# Altium integrated library WS-TATV THT Tact Switch 6X6 mm.IntLib: 15 symbols
Pins are listed as number, name and electrical type; pins without a type are passive.

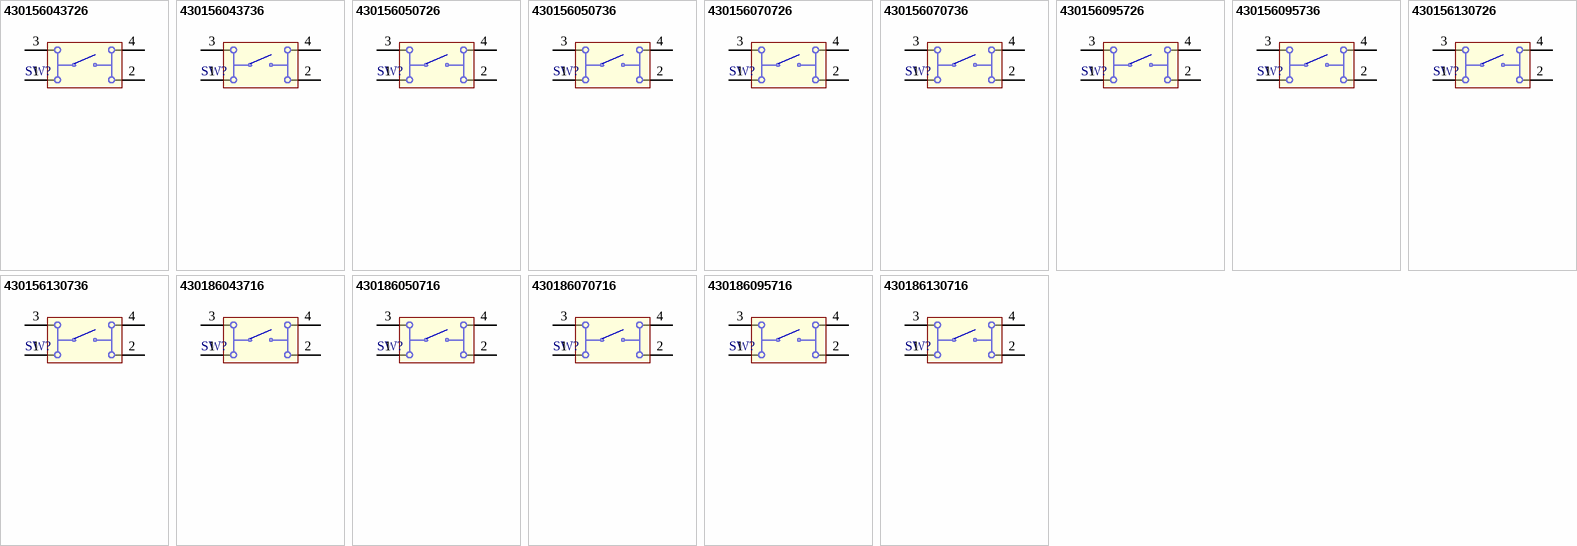
[diagram p0: symbols 430156043726 to 430186130716]

## 430156043726
designator SW?
WS-TATV THT Tact Switch 6X6 mm; PartNumber: 430156043726; NoPins: 04; PackageReference: 430156043726; ComponentLink1Description: Manufacturer URL; ComponentLink1URL: http://www.we-online.com; ComponentLink2Description: Datasheet; ComponentLink2URL: http://katalog.we-online.de/em/datasheet/4301x6.pdf
footprint 430156043726 (6*6mm vertical type, THT, height 4.3mm, white actuator, 260gf, Bulk)
pins: 1, 2, 3, 4

## 430156043736
designator SW?
WS-TATV THT Tact Switch 6X6 mm; PartNumber: 430156043736; NoPins: 04; PackageReference: 430156043736; ComponentLink1Description: Manufacturer URL; ComponentLink1URL: http://www.we-online.com; ComponentLink2Description: Datasheet; ComponentLink2URL: http://katalog.we-online.de/em/datasheet/4301x6.pdf
footprint 430156043736 (6*6mm vertical type, THT, height 4.3mm, salmon actuator 360gf, Bulk)
pins: 1, 2, 3, 4

## 430156050726
designator SW?
WS-TATV THT Tact Switch 6X6 mm; PartNumber: 430156050726; NoPins: 04; PackageReference: 430156050726; ComponentLink1Description: Manufacturer URL; ComponentLink1URL: http://www.we-online.com; ComponentLink2Description: Datasheet; ComponentLink2URL: http://katalog.we-online.de/em/datasheet/4301x6.pdf
footprint 430156050726 (6*6mm vertical type, THT, height 5.0mm, white actuator, 260gf, Bulk)
pins: 1, 2, 3, 4

## 430156050736
designator SW?
WS-TATV THT Tact Switch 6X6 mm; PartNumber: 430156050736; NoPins: 04; PackageReference: 430156050736; ComponentLink1Description: Manufacturer URL; ComponentLink1URL: http://www.we-online.com; ComponentLink2Description: Datasheet; ComponentLink2URL: http://katalog.we-online.de/em/datasheet/4301x6.pdf
footprint 430156050736 (6*6mm vertical type, THT, height 5.0mm, salmon actuator, 360gf, Bulk)
pins: 1, 2, 3, 4

## 430156070726
designator SW?
WS-TATV THT Tact Switch 6X6 mm; PartNumber: 430156070726; NoPins: 04; PackageReference: 430156070726; ComponentLink1Description: Manufacturer URL; ComponentLink1URL: http://www.we-online.com; ComponentLink2Description: Datasheet; ComponentLink2URL: http://katalog.we-online.de/em/datasheet/4301x6.pdf
footprint 430156070726 (6*6mm vertical type, THT, height 7.0mm, white actuator, 260gf, Bulk)
pins: 1, 2, 3, 4

## 430156070736
designator SW?
WS-TATV THT Tact Switch 6X6 mm; PartNumber: 430156070736; NoPins: 04; PackageReference: 430156070736; ComponentLink1Description: Manufacturer URL; ComponentLink1URL: http://www.we-online.com; ComponentLink2Description: Datasheet; ComponentLink2URL: http://katalog.we-online.de/em/datasheet/4301x6.pdf
footprint 430156070736 (6*6mm vertical type, THT, height 7.0mm, salmon actuator, 360gf, Bulk)
pins: 1, 2, 3, 4

## 430156095726
designator SW?
WS-TATV THT Tact Switch 6X6 mm; PartNumber: 430156095726; NoPins: 04; PackageReference: 430156095726; ComponentLink1Description: Manufacturer URL; ComponentLink1URL: http://www.we-online.com; ComponentLink2Description: Datasheet; ComponentLink2URL: http://katalog.we-online.de/em/datasheet/4301x6.pdf
footprint 430156095726 (6*6mm vertical type, THT, height 9.5mm, white actuator, 260gf, Bulk)
pins: 1, 2, 3, 4

## 430156095736
designator SW?
WS-TATV THT Tact Switch 6X6 mm; PartNumber: 430156095736; NoPins: 04; PackageReference: 430156095736; ComponentLink1Description: Manufacturer URL; ComponentLink1URL: http://www.we-online.com; ComponentLink2Description: Datasheet; ComponentLink2URL: http://katalog.we-online.de/em/datasheet/4301x6.pdf
footprint 430156095736 (6*6mm vertical type, THT, height 9.5mm, salmon actuator, 360gf, Bulk)
pins: 1, 2, 3, 4

## 430156130726
designator SW?
WS-TATV THT Tact Switch 6X6 mm; PartNumber: 430156130726; NoPins: 04; PackageReference: 430156130726; ComponentLink1Description: Manufacturer URL; ComponentLink1URL: http://www.we-online.com; ComponentLink2Description: Datasheet; ComponentLink2URL: http://katalog.we-online.de/em/datasheet/4301x6.pdf
footprint 430156130726 (6*6mm vertical type, THT, height 13.0mm, white actuator, 260gf, Bulk)
pins: 1, 2, 3, 4

## 430156130736
designator SW?
WS-TATV THT Tact Switch 6X6 mm; PartNumber: 430156130736; NoPins: 04; PackageReference: 430156130736; ComponentLink1Description: Manufacturer URL; ComponentLink1URL: http://www.we-online.com; ComponentLink2Description: Datasheet; ComponentLink2URL: http://katalog.we-online.de/em/datasheet/4301x6.pdf
footprint 430156130736 (6*6mm vertical type, THT, height 13.0mm, salmon actuator, 360gf, Bulk)
pins: 1, 2, 3, 4

## 430186043716
designator SW?
WS-TATV THT Tact Switch 6X6 mm; PartNumber: 430186043716; NoPins: 04; PackageReference: 430186043716; ComponentLink1Description: Manufacturer URL; ComponentLink1URL: http://www.we-online.com; ComponentLink2Description: Datasheet; ComponentLink2URL: http://katalog.we-online.de/em/datasheet/4301x6.pdf
footprint 430186043716 (6*6mm vertical type, THT, height 4.3mm, black actuator, 160gf, Bulk)
pins: 1, 2, 3, 4

## 430186050716
designator SW?
WS-TATV THT Tact Switch 6X6 mm; PartNumber: 430186050716; NoPins: 04; PackageReference: 430186050716; ComponentLink1Description: Manufacturer URL; ComponentLink1URL: http://www.we-online.com; ComponentLink2Description: Datasheet; ComponentLink2URL: http://katalog.we-online.de/em/datasheet/4301x6.pdf
footprint 430186050716 (6*6mm vertical type, THT, height 5.0mm, black actuator, 160gf, Bulk)
pins: 1, 2, 3, 4

## 430186070716
designator SW?
WS-TATV THT Tact Switch 6X6 mm; PartNumber: 430186070716; NoPins: 04; PackageReference: 430186070716; ComponentLink1Description: Manufacturer URL; ComponentLink1URL: http://www.we-online.com; ComponentLink2Description: Datasheet; ComponentLink2URL: http://katalog.we-online.de/em/datasheet/4301x6.pdf
footprint 430186070716 (6*6mm vertical type, THT, height 7.0mm, black actuator, 160gf, Bulk)
pins: 1, 2, 3, 4

## 430186095716
designator SW?
WS-TATV THT Tact Switch 6X6 mm; PartNumber: 430186095716; NoPins: 04; PackageReference: 430186095716; ComponentLink1Description: Manufacturer URL; ComponentLink1URL: http://www.we-online.com; ComponentLink2Description: Datasheet; ComponentLink2URL: http://katalog.we-online.de/em/datasheet/4301x6.pdf
footprint 430186095716 (6*6mm vertical type, THT, height 9.5mm, black actuator, 160gf, Bulk)
pins: 1, 2, 3, 4

## 430186130716
designator SW?
WS-TATV THT Tact Switch 6X6 mm; PartNumber: 430186130716; NoPins: 04; PackageReference: 430186130716; ComponentLink1Description: Manufacturer URL; ComponentLink1URL: http://www.we-online.com; ComponentLink2Description: Datasheet; ComponentLink2URL: http://katalog.we-online.de/em/datasheet/4301x6.pdf
footprint 430186130716 (6*6mm vertical type, THT, height 13.0mm, black actuator, 160gf, Bulk)
pins: 1, 2, 3, 4